# Altium integrated library Analog Devices Data Converters Analog-to-Digital Converters.IntLib: 2400 symbols (part 23 of 338)
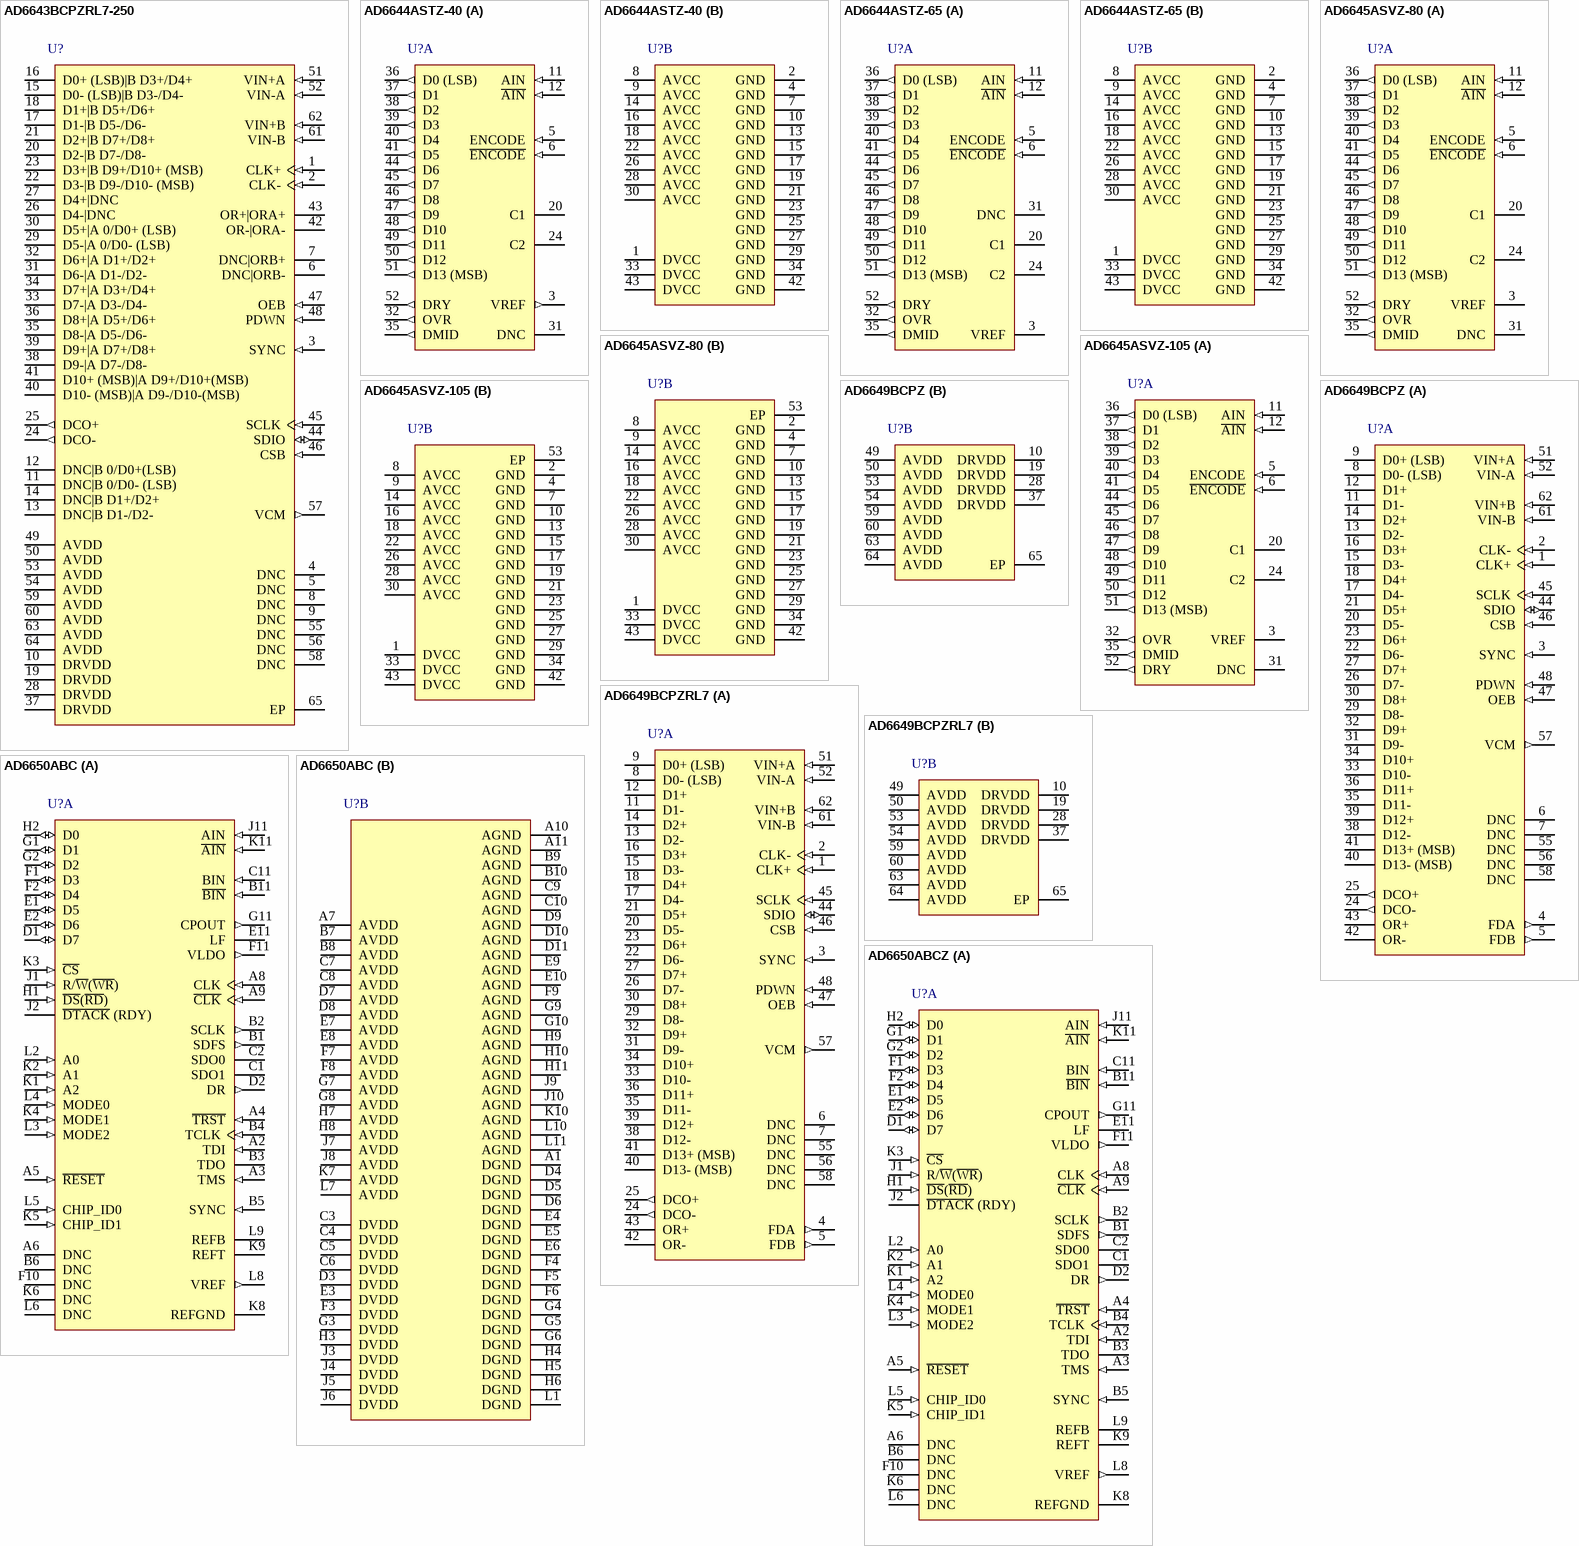
[diagram p167: symbols AD6643BCPZRL7-250 to AD6650ABCZ]

## AD6649BCPZRL7
designator U?
Dual IF Diversity Receiver, -40 to +85 degC, CP-64-4, Pb-Free, Reel; Part Number: AD6649; Manufacturer: Analog Devices; Channels: 2; DatasheetVersion: Rev.A; PackageVersion: 051007-C; PackageReference: CP-64-4; PackageDescription: 64-Lead Lead Frame Chip Scale Package [LFCSP_VQ] 9 x 9 mm Body, Very Thin Quad; RoHS: Y; Packing: Reel; Mounting Technology: Surface Mount; Code_JEDEC: MO-220-VMMD-4; ComponentLink1Description: Manufacturer URL; ComponentLink1URL: http://www.analog.com/en/index.html; ComponentLink2Description: Datasheet; ComponentLink2URL: http://www.analog.com/static/imported-files/data_sheets/AD6649.pdf; ComponentLink3Description: Package Specification; ComponentLink3URL: http://www.analog.com/static/imported-files/packages/PKG_PDF/LFCSP(CP)/CP_64_4.pdf; ComponentLink4Description: Product URL; ComponentLink4URL: http://www.analog.com/en/analog-to-digital-converters/integrated-receivers/ad6649/products/product.html
footprint CP-64-4_N (QFN, 64-Leads, Body 9x9mm, Pitch 0.5mm, Thermal Pad 6.2x6.2mm, IPC Medium Density)
footprint CP-64-4_L (QFN, 64-Leads, Body 9x9mm, Pitch 0.5mm, Thermal Pad 6.2x6.2mm, IPC High Density)
footprint CP-64-4_M (QFN, 64-Leads, Body 9x9mm, Pitch 0.5mm, Thermal Pad 6.2x6.2mm, IPC Low Density)
part A pins: 1 CLK+ (in) "ADC Clock Input--True.", 2 CLK- (in) "ADC Clock Input--Complement.", 3 SYNC (in) "Digital Synchronization Pin. Slave mode only.", 4 FDA (out) "Channel A Fast Detect Indicator (CMOS Levels).", 5 FDB (out) "Channel B Fast Detect Indicator (CMOS Levels).", 6 DNC "Do Not Connect. Do not connect to this pin.", 7 DNC "Do Not Connect. Do not connect to this pin.", 8 D0- (LSB) (hiz) "Channel A/Channel B LVDS Output Data 0--Complement", 9 D0+ (LSB) (hiz) "Channel A/Channel B LVDS Output Data 0--True.", 11 D1- (hiz) "Channel A/Channel B LVDS Output Data 1--Complement.", 12 D1+ (hiz) "Channel A/Channel B LVDS Output Data 1--True.", 13 D2- (hiz) "Channel A/Channel B LVDS Output Data 2--Complement.", 14 D2+ (hiz) "Channel A/Channel B LVDS Output Data 2--True.", 15 D3- (hiz) "Channel A/Channel B LVDS Output Data 3--Complement.", 16 D3+ (hiz) "Channel A/Channel B LVDS Output Data 3--True.", 17 D4- (hiz) "Channel A/Channel B LVDS Output Data 4--Complement.", 18 D4+ (hiz) "Channel A/Channel B LVDS Output Data 4--True.", 20 D5- (hiz) "Channel A/Channel B LVDS Output Data 5--Complement.", 21 D5+ (hiz) "Channel A/Channel B LVDS Output Data 5--True.", 22 D6- (hiz) "Channel A/Channel B LVDS Output Data 6--Complement.", 23 D6+ (hiz) "Channel A/Channel B LVDS Output Data 6--True.", 24 DCO- (out) "Channel A/Channel B LVDS Data Clock Output--Complement.", 25 DCO+ (out) "Channel A/Channel B LVDS Data Clock Output--True.", 26 D7- (hiz) "Channel A/Channel B LVDS Output Data 7--Complement.", 27 D7+ (hiz) "Channel A/Channel B LVDS Output Data 7--True.", 29 D8- (hiz) "Channel A/Channel B LVDS Output Data 8--Complement.", 30 D8+ (hiz) "Channel A/Channel B LVDS Output Data 8--True.", 31 D9- (hiz) "Channel A/Channel B LVDS Output Data 9--Complement.", 32 D9+ (hiz) "Channel A/Channel B LVDS Output Data 9--True.", 33 D10- (hiz) "Channel A/Channel B LVDS Output Data 10--Complement.", 34 D10+ (hiz) "Channel A/Channel B LVDS Output Data 10--True.", 35 D11- (hiz) "Channel A/Channel B LVDS Output Data 11--Complement.", 36 D11+ (hiz) "Channel A/Channel B LVDS Output Data 11--True.", 38 D12- (hiz) "Channel A/Channel B LVDS Output Data 12--Complement.", 39 D12+ (hiz) "Channel A/Channel B LVDS Output Data 12--True.", 40 D13- (MSB) (hiz) "Channel A/Channel B LVDS Output Data 13--Complement.", 41 D13+ (MSB) (hiz) "Channel A/Channel B LVDS Output Data 13--True.", 42 OR- (hiz) "Channel A/Channel B LVDS Overrange--Complement.", 43 OR+ (hiz) "Channel A/Channel B LVDS Overrange--True.", 44 SDIO (io) "SPI Serial Data Input/Output.", 45 SCLK (in) "SPI Serial Clock.", 46 CSB (in) "SPI Chip Select (Active Low).", 47 OEB (in) "Output Enable Bar Input (Active Low).", 48 PDWN (in) "Power-Down Input (Active High). The operation of this pin depends on the SPI mode and can be configured as power-down or standby (see Table 14).", 51 VIN+A (in) "Differential Analog Input Pin (+) for Channel A.", 52 VIN-A (in) "Differential Analog Input Pin (-) for Channel A.", 55 DNC "Do Not Connect. Do not connect to this pin.", 56 DNC "Do Not Connect. Do not connect to this pin.", 57 VCM (out) "Common-Mode Level Bias Output for Analog Inputs. This pin should be decoupled to ground using a 0.1 uF capacitor.", 58 DNC "Do Not Connect. Do not connect to this pin.", 61 VIN-B (in) "Differential Analog Input Pin (-) for Channel B.", 62 VIN+B (in) "Differential Analog Input Pin (+) for Channel B."
part B pins: 10 DRVDD (power) "Digital Output Driver Supply (1.8 V Nominal).", 19 DRVDD (power) "Digital Output Driver Supply (1.8 V Nominal).", 28 DRVDD (power) "Digital Output Driver Supply (1.8 V Nominal).", 37 DRVDD (power) "Digital Output Driver Supply (1.8 V Nominal).", 49 AVDD (power) "Analog Power Supply (1.8 V Nominal).", 50 AVDD (power) "Analog Power Supply (1.8 V Nominal).", 53 AVDD (power) "Analog Power Supply (1.8 V Nominal).", 54 AVDD (power) "Analog Power Supply (1.8 V Nominal).", 59 AVDD (power) "Analog Power Supply (1.8 V Nominal).", 60 AVDD (power) "Analog Power Supply (1.8 V Nominal).", 63 AVDD (power) "Analog Power Supply (1.8 V Nominal).", 64 AVDD (power) "Analog Power Supply (1.8 V Nominal).", 65 EP (power) "Analog Ground. The exposed thermal paddle on the bottom of the package provides the analog ground for the part. This exposed paddle must be connected to ground for proper operation."

## AD6650ABC
designator U?
Dual 16-Bit IF-to-Baseband GSM / EDGE Narrow-Band Receiver with Serial Interface, 1MSPS, -25 to +85 degC, BC-121-1, Tray; Part Number: AD6650; Manufacturer: Analog Devices; Resolution (Bits): 24; Channels: 2; Throughput Rate (SPS): 1M; Interface: Ser; DatasheetVersion: Rev.A; PackageVersion: 082406-A; PackageReference: BC-121-1; PackageDescription: 121-Ball Chip Scale Package Ball Grid Array [CSP_BGA]; RoHS: N; Packing: Tray; Mounting Technology: Surface Mount; Code_JEDEC: MO-192-ABD-1*; ComponentLink1Description: Manufacturer URL; ComponentLink1URL: http://www.analog.com/en/index.html; ComponentLink2Description: Datasheet; ComponentLink2URL: http://www.analog.com/static/imported-files/data_sheets/AD6650.pdf; ComponentLink3Description: Package Specification; ComponentLink3URL: http://www.analog.com/static/imported-files/packages/3232325371445BC_121_1.pdf; ComponentLink4Description: Product URL; ComponentLink4URL: http://www.analog.com/en/analog-to-digital-converters/ad-converters/ad6650/products/product.html
footprint BC-121-1 (BGA, 121-Leads, Body 12x12mm, Pitch 1mm)
part A pins: A2 TDI (in) "Test Data input", A3 TMS (in) "Test Mode Select Input", A4 ~{TRST} (in) "Test Reset Pin.", A5 ~{RESET} (in) "Active Low Reset Pin.", A6 DNC "Do Not Connect.", A8 CLK (in) "Encode Input. Conversion initiated on rising edge.", A9 ~{CLK} (in) "Complement of Encode.", B1 SDFS (out) "Serial Data Frame Sync.", B2 SCLK (out) "Serial Clock.", B3 TDO (hiz) "Test Data Output. Three-stated when JTAG is in reset.", B4 TCLK (in) "Test Clock Input.", B5 SYNC (in) "Synchronizes Digital Filters.", B6 DNC "Do Not Connect.", B11 ~{BIN} (in) "Complement of BIN. Differential analog input.", C1 SDO1 (hiz) "Serial Data Outputs. Three-stated when inactive.", C2 SDO0 (hiz) "Serial Data Outputs. Three-stated when inactive.", C11 BIN (in) "Diversity Analog Input.", D1 D7 (io) "Microport Data.", D2 DR (out) "Output Data Ready Indicator.", E1 D5 (io) "Microport Data.", E2 D6 (io) "Microport Data.", E11 LF "Loop Filter.", F1 D3 (io) "Microport Data.", F2 D4 (io) "Microport Data.", F10 DNC "Do Not Connect.", F11 VLDO (out) "Compensation for Internal Low Dropout Regulator. Bypass to ground with a 220 nF chip capacitor", G1 D1 (io) "Microport Data.", G2 D2 (io) "Microport Data.", G11 CPOUT (out) "Charge-Pump Output.", H1 ~{DS}(~{RD}) (in) "Active Low Data Strobe (Active Low Read).", H2 D0 (io) "Microport Data.", J1 R/~{W}(~{WR}) (in) "Read Write (Active Low Write).", J2 ~{DTACK} (RDY) (oc) "Active Low Data Acknowledge (Microport Status Bit). Open-drain output, requires  external pull-up resistor of 1 kO.", J11 AIN (in) "Main Analog Input.", K1 A2 (in) "Microport Address Bits.", K2 A1 (in) "Microport Address Bits.", K3 ~{CS} (in) "Chip Select.", K4 MODE1 (in) "Selects Control Port Mode.", K5 CHIP_ID1 (in) "Chip ID.", K6 DNC "Do Not Connect.", K8 REFGND (power) "ADC Ground Reference. See Figure 39 for recommended connection", K9 REFT "Internal ADC Voltage Reference. Bypass to ground with capacitors. See Figure 39 for recommended connection.", K11 ~{AIN} (in) "Complement of AIN. Differential analog input.", L2 A0 (in) "Microport Address Bits", L3 MODE2 (in) "Selects Control Port Mode.", L4 MODE0 (in) "Selects Control Port Mode.", L5 CHIP_ID0 (in) "Chip ID.", L6 DNC "Do Not Connect.", L8 VREF (out) "Internal ADC Voltage Reference. Bypass to ground with capacitors. See Figure 39 for recommended connection.", L9 REFB "Internal ADC Voltage Reference. Bypass to ground with capacitors. See Figure 39 for recommended connection."
part B pins: A1 DGND (power) "Digital Ground.", A7 AVDD (power) "3.3 V Analog Supply", A10 AGND (power) "Analog Ground.", A11 AGND (power) "Analog Ground.", B7 AVDD (power) "3.3 V Analog Supply", B8 AVDD (power) "3.3 V Analog Supply", B9 AGND (power) "Analog Ground.", B10 AGND (power) "Analog Ground.", C3 DVDD (power) "3.3 V Digital Supply.", C4 DVDD (power) "3.3 V Digital Supply.", C5 DVDD (power) "3.3 V Digital Supply.", C6 DVDD (power) "3.3 V Digital Supply.", C7 AVDD (power) "3.3 V Analog Supply", C8 AVDD (power) "3.3 V Analog Supply", C9 AGND (power) "Analog Ground.", C10 AGND (power) "Analog Ground.", D3 DVDD (power) "3.3 V Digital Supply.", D4 DGND (power) "Digital Ground.", D5 DGND (power) "Digital Ground.", D6 DGND (power) "Digital Ground.", D7 AVDD (power) "3.3 V Analog Supply", D8 AVDD (power) "3.3 V Analog Supply", D9 AGND (power) "Analog Ground.", D10 AGND (power) "Analog Ground.", D11 AGND (power) "Analog Ground.", E3 DVDD (power) "3.3 V Digital Supply.", E4 DGND (power) "Digital Ground.", E5 DGND (power) "Digital Ground.", E6 DGND (power) "Digital Ground.", E7 AVDD (power) "3.3 V Analog Supply", E8 AVDD (power) "3.3 V Analog Supply", E9 AGND (power) "Analog Ground.", E10 AGND (power) "Analog Ground.", F3 DVDD (power) "3.3 V Digital Supply.", F4 DGND (power) "Digital Ground.", F5 DGND (power) "Digital Ground.", F6 DGND (power) "Digital Ground.", F7 AVDD (power) "3.3 V Analog Supply", F8 AVDD (power) "3.3 V Analog Supply", F9 AGND (power) "Analog Ground.", G3 DVDD (power) "3.3 V Digital Supply.", G4 DGND (power) "Digital Ground.", G5 DGND (power) "Digital Ground.", G6 DGND (power) "Digital Ground.", G7 AVDD (power) "3.3 V Analog Supply", G8 AVDD (power) "3.3 V Analog Supply", G9 AGND (power) "Analog Ground.", G10 AGND (power) "Analog Ground.", H3 DVDD (power) "3.3 V Digital Supply.", H4 DGND (power) "Digital Ground.", H5 DGND (power) "Digital Ground.", H6 DGND (power) "Digital Ground.", H7 AVDD (power) "3.3 V Analog Supply", H8 AVDD (power) "3.3 V Analog Supply", H9 AGND (power) "Analog Ground.", H10 AGND (power) "Analog Ground.", H11 AGND (power) "Analog Ground.", J3 DVDD (power) "3.3 V Digital Supply.", J4 DVDD (power) "3.3 V Digital Supply.", J5 DVDD (power) "3.3 V Digital Supply.", J6 DVDD (power) "3.3 V Digital Supply.", J7 AVDD (power) "3.3 V Analog Supply", J8 AVDD (power) "3.3 V Analog Supply", J9 AGND (power) "Analog Ground.", J10 AGND (power) "Analog Ground.", K7 AVDD (power) "3.3 V Analog Supply.", K10 AGND (power) "Analog Ground.", L1 DGND (power) "Digital Ground.", L7 AVDD (power) "3.3 V Analog Supply", L10 AGND (power) "Analog Ground.", L11 AGND (power) "Analog Ground."

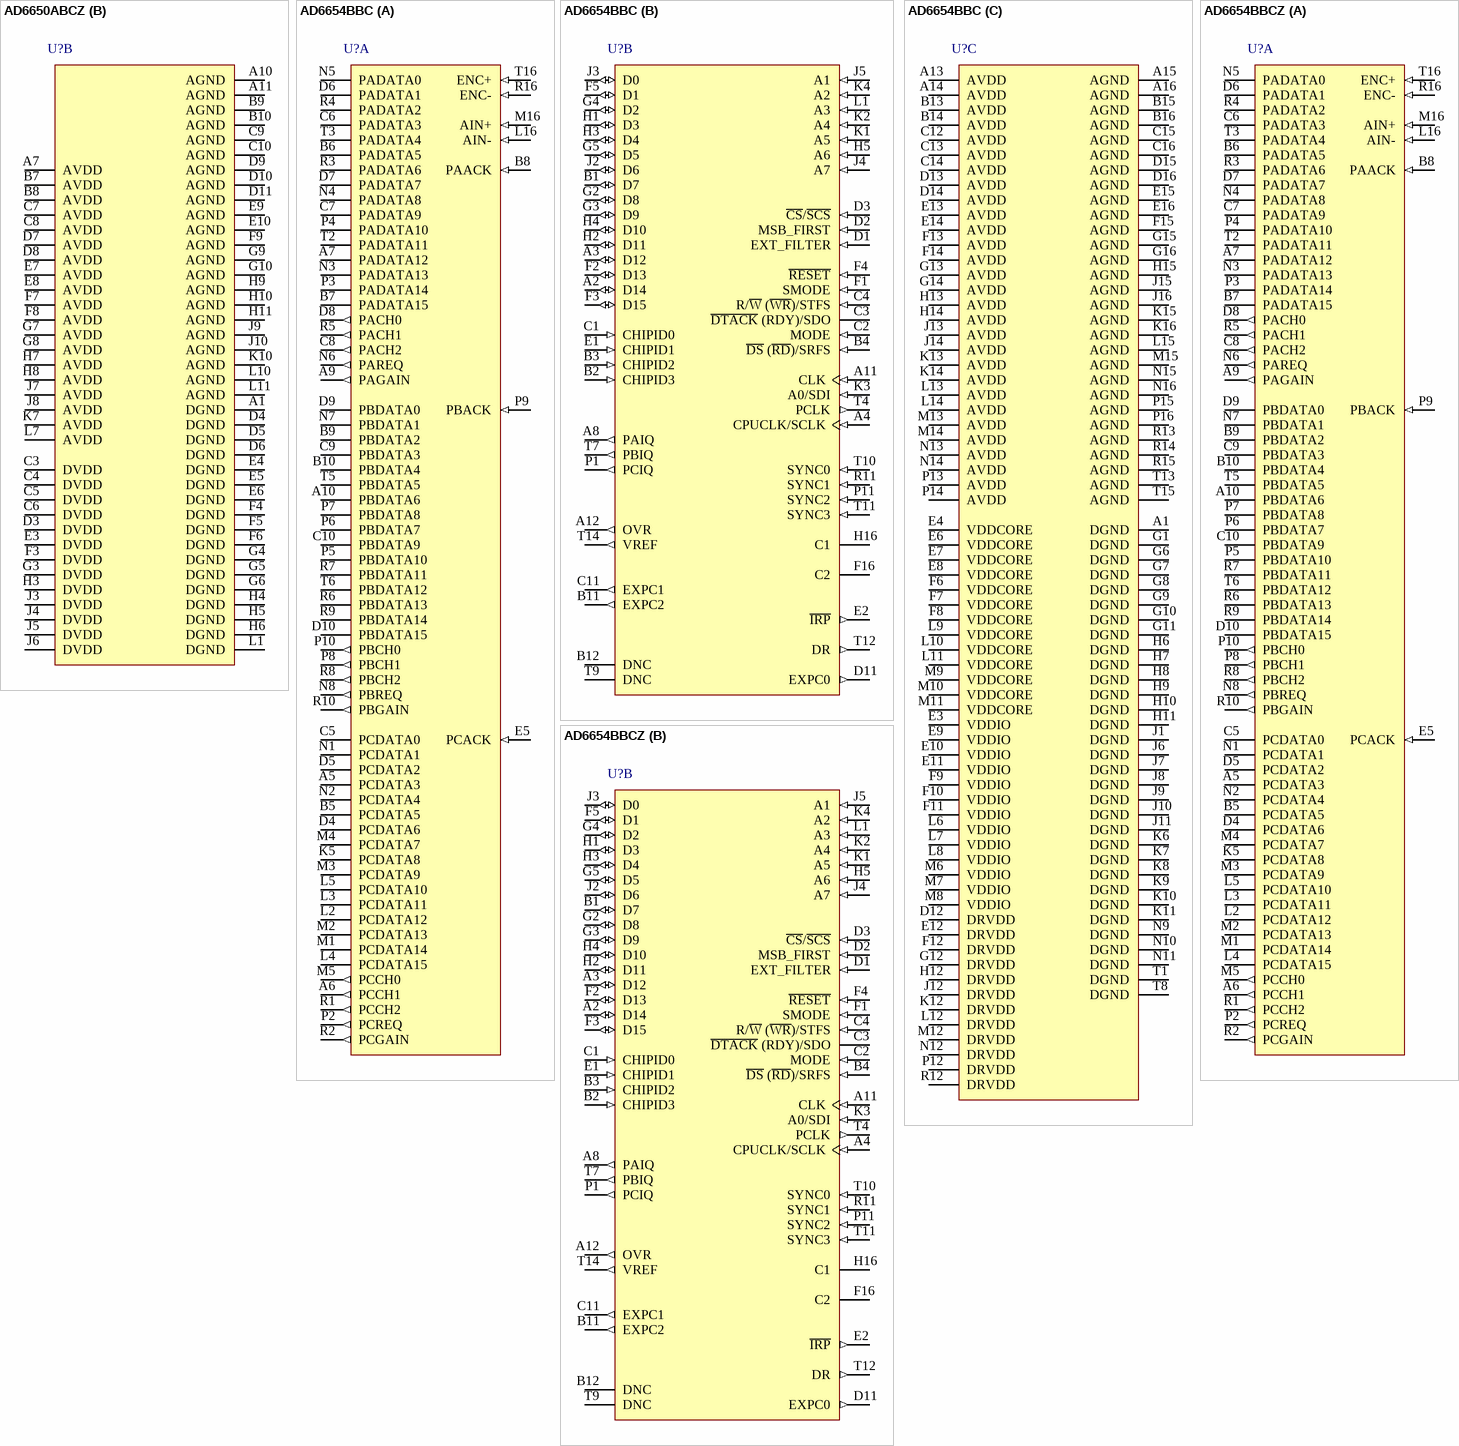
[diagram p9: symbols AD6650ABCZ to AD6654BBCZ]

## AD6650ABCZ
designator U?
Dual 16-Bit IF-to-Baseband GSM / EDGE Narrow-Band Receiver with Serial Interface, 1MSPS, -25 to +85 degC, BC-121-1, Pb-Free, Tray; Part Number: AD6650; Manufacturer: Analog Devices; Resolution (Bits): 24; Channels: 2; Throughput Rate (SPS): 1M; Interface: Ser; DatasheetVersion: Rev.A; PackageVersion: 082406-A; PackageReference: BC-121-1; PackageDescription: 121-Ball Chip Scale Package Ball Grid Array [CSP_BGA]; RoHS: Y; Packing: Tray; Mounting Technology: Surface Mount; Code_JEDEC: MO-192-ABD-1*; ComponentLink1Description: Manufacturer URL; ComponentLink1URL: http://www.analog.com/en/index.html; ComponentLink2Description: Datasheet; ComponentLink2URL: http://www.analog.com/static/imported-files/data_sheets/AD6650.pdf; ComponentLink3Description: Package Specification; ComponentLink3URL: http://www.analog.com/static/imported-files/packages/3232325371445BC_121_1.pdf; ComponentLink4Description: Product URL; ComponentLink4URL: http://www.analog.com/en/analog-to-digital-converters/ad-converters/ad6650/products/product.html
footprint BC-121-1 (BGA, 121-Leads, Body 12x12mm, Pitch 1mm)
part A pins: A2 TDI (in) "Test Data input", A3 TMS (in) "Test Mode Select Input", A4 ~{TRST} (in) "Test Reset Pin.", A5 ~{RESET} (in) "Active Low Reset Pin.", A6 DNC "Do Not Connect.", A8 CLK (in) "Encode Input. Conversion initiated on rising edge.", A9 ~{CLK} (in) "Complement of Encode.", B1 SDFS (out) "Serial Data Frame Sync.", B2 SCLK (out) "Serial Clock.", B3 TDO (hiz) "Test Data Output. Three-stated when JTAG is in reset.", B4 TCLK (in) "Test Clock Input.", B5 SYNC (in) "Synchronizes Digital Filters.", B6 DNC "Do Not Connect.", B11 ~{BIN} (in) "Complement of BIN. Differential analog input.", C1 SDO1 (hiz) "Serial Data Outputs. Three-stated when inactive.", C2 SDO0 (hiz) "Serial Data Outputs. Three-stated when inactive.", C11 BIN (in) "Diversity Analog Input.", D1 D7 (io) "Microport Data.", D2 DR (out) "Output Data Ready Indicator.", E1 D5 (io) "Microport Data.", E2 D6 (io) "Microport Data.", E11 LF "Loop Filter.", F1 D3 (io) "Microport Data.", F2 D4 (io) "Microport Data.", F10 DNC "Do Not Connect.", F11 VLDO (out) "Compensation for Internal Low Dropout Regulator. Bypass to ground with a 220 nF chip capacitor", G1 D1 (io) "Microport Data.", G2 D2 (io) "Microport Data.", G11 CPOUT (out) "Charge-Pump Output.", H1 ~{DS}(~{RD}) (in) "Active Low Data Strobe (Active Low Read).", H2 D0 (io) "Microport Data.", J1 R/~{W}(~{WR}) (in) "Read Write (Active Low Write).", J2 ~{DTACK} (RDY) (oc) "Active Low Data Acknowledge (Microport Status Bit). Open-drain output, requires  external pull-up resistor of 1 kO.", J11 AIN (in) "Main Analog Input.", K1 A2 (in) "Microport Address Bits.", K2 A1 (in) "Microport Address Bits.", K3 ~{CS} (in) "Chip Select.", K4 MODE1 (in) "Selects Control Port Mode.", K5 CHIP_ID1 (in) "Chip ID.", K6 DNC "Do Not Connect.", K8 REFGND (power) "ADC Ground Reference. See Figure 39 for recommended connection", K9 REFT "Internal ADC Voltage Reference. Bypass to ground with capacitors. See Figure 39 for recommended connection.", K11 ~{AIN} (in) "Complement of AIN. Differential analog input.", L2 A0 (in) "Microport Address Bits", L3 MODE2 (in) "Selects Control Port Mode.", L4 MODE0 (in) "Selects Control Port Mode.", L5 CHIP_ID0 (in) "Chip ID.", L6 DNC "Do Not Connect.", L8 VREF (out) "Internal ADC Voltage Reference. Bypass to ground with capacitors. See Figure 39 for recommended connection.", L9 REFB "Internal ADC Voltage Reference. Bypass to ground with capacitors. See Figure 39 for recommended connection."
part B pins: A1 DGND (power) "Digital Ground.", A7 AVDD (power) "3.3 V Analog Supply", A10 AGND (power) "Analog Ground.", A11 AGND (power) "Analog Ground.", B7 AVDD (power) "3.3 V Analog Supply", B8 AVDD (power) "3.3 V Analog Supply", B9 AGND (power) "Analog Ground.", B10 AGND (power) "Analog Ground.", C3 DVDD (power) "3.3 V Digital Supply.", C4 DVDD (power) "3.3 V Digital Supply.", C5 DVDD (power) "3.3 V Digital Supply.", C6 DVDD (power) "3.3 V Digital Supply.", C7 AVDD (power) "3.3 V Analog Supply", C8 AVDD (power) "3.3 V Analog Supply", C9 AGND (power) "Analog Ground.", C10 AGND (power) "Analog Ground.", D3 DVDD (power) "3.3 V Digital Supply.", D4 DGND (power) "Digital Ground.", D5 DGND (power) "Digital Ground.", D6 DGND (power) "Digital Ground.", D7 AVDD (power) "3.3 V Analog Supply", D8 AVDD (power) "3.3 V Analog Supply", D9 AGND (power) "Analog Ground.", D10 AGND (power) "Analog Ground.", D11 AGND (power) "Analog Ground.", E3 DVDD (power) "3.3 V Digital Supply.", E4 DGND (power) "Digital Ground.", E5 DGND (power) "Digital Ground.", E6 DGND (power) "Digital Ground.", E7 AVDD (power) "3.3 V Analog Supply", E8 AVDD (power) "3.3 V Analog Supply", E9 AGND (power) "Analog Ground.", E10 AGND (power) "Analog Ground.", F3 DVDD (power) "3.3 V Digital Supply.", F4 DGND (power) "Digital Ground.", F5 DGND (power) "Digital Ground.", F6 DGND (power) "Digital Ground.", F7 AVDD (power) "3.3 V Analog Supply", F8 AVDD (power) "3.3 V Analog Supply", F9 AGND (power) "Analog Ground.", G3 DVDD (power) "3.3 V Digital Supply.", G4 DGND (power) "Digital Ground.", G5 DGND (power) "Digital Ground.", G6 DGND (power) "Digital Ground.", G7 AVDD (power) "3.3 V Analog Supply", G8 AVDD (power) "3.3 V Analog Supply", G9 AGND (power) "Analog Ground.", G10 AGND (power) "Analog Ground.", H3 DVDD (power) "3.3 V Digital Supply.", H4 DGND (power) "Digital Ground.", H5 DGND (power) "Digital Ground.", H6 DGND (power) "Digital Ground.", H7 AVDD (power) "3.3 V Analog Supply", H8 AVDD (power) "3.3 V Analog Supply", H9 AGND (power) "Analog Ground.", H10 AGND (power) "Analog Ground.", H11 AGND (power) "Analog Ground.", J3 DVDD (power) "3.3 V Digital Supply.", J4 DVDD (power) "3.3 V Digital Supply.", J5 DVDD (power) "3.3 V Digital Supply.", J6 DVDD (power) "3.3 V Digital Supply.", J7 AVDD (power) "3.3 V Analog Supply", J8 AVDD (power) "3.3 V Analog Supply", J9 AGND (power) "Analog Ground.", J10 AGND (power) "Analog Ground.", K7 AVDD (power) "3.3 V Analog Supply.", K10 AGND (power) "Analog Ground.", L1 DGND (power) "Digital Ground.", L7 AVDD (power) "3.3 V Analog Supply", L10 AGND (power) "Analog Ground.", L11 AGND (power) "Analog Ground."

## AD6654BBC
designator U?
Single 14-Bit Wideband IF to Baseband Receiver with Parallel Interface, 92.16MSPS, 0 to +70 degC, BC-256-2, Tray; Part Number: AD6654; Manufacturer: Analog Devices; Resolution (Bits): 14; Channels: 1; Interface: Par; DatasheetVersion: Rev.0; PackageVersion: 022007-B; PackageReference: BC-256-2; PackageDescription: 256-Ball Chip Scale Package Ball Grid Array [CSP_BGA]; RoHS: N; Packing: Tray; Mounting Technology: Surface Mount; Code_JEDEC: MO-192-AAF-1*; ComponentLink1Description: Manufacturer URL; ComponentLink1URL: http://www.analog.com/en/index.html; ComponentLink2Description: Datasheet; ComponentLink2URL: http://www.analog.com/static/imported-files/data_sheets/AD6654.pdf; ComponentLink3Description: Package Specification; ComponentLink3URL: http://www.analog.com/static/imported-files/packages/5685336469362195555BC_256_2.pdf; ComponentLink4Description: Product URL; ComponentLink4URL: http://www.analog.com/en/analog-to-digital-converters/ad-converters/ad6654/products/product.html
footprint BC-256-2 (BGA, 256-Leads, Body 17x17mm, Pitch 1mm)
part A pins: A5 PCDATA3 (hiz) "Parallel Output Port C Data Bus.", A6 PCCH1 (out) "Channel Indicator Output Port C.", A7 PADATA12 (hiz) "Parallel Output Port A Data Bus.", A9 PAGAIN (out) "Parallel Port A Gain Word Output Indicator. Logic 1 indicates gain word on data bus.", A10 PBDATA6 (hiz) "Parallel Output Port B Data Bus.", B5 PCDATA5 (hiz) "Parallel Output Port C Data Bus.", B6 PADATA5 (hiz) "Parallel Output Port A Data Bus.", B7 PADATA15 (hiz) "Parallel Output Port A Data Bus.", B8 PAACK (in) "Parallel Port A Acknowledge (Active High).", B9 PBDATA2 (hiz) "Parallel Output Port B Data Bus.", B10 PBDATA4 (hiz) "Parallel Output Port B Data Bus.", C5 PCDATA0 (hiz) "Parallel Output Port C Data Bus.", C6 PADATA3 (hiz) "Parallel Output Port A Data Bus.", C7 PADATA9 (hiz) "Parallel Output Port A Data Bus.", C8 PACH2 (out) "Channel Indicator Output Port A", C9 PBDATA3 (hiz) "Parallel Output Port B Data Bus.", C10 PBDATA9 (hiz) "Parallel Output Port B Data Bus.", D4 PCDATA6 (hiz) "Parallel Output Port C Data Bus.", D5 PCDATA2 (hiz) "Parallel Output Port C Data Bus.", D6 PADATA1 (hiz) "Parallel Output Port A Data Bus.", D7 PADATA7 (hiz) "Parallel Output Port A Data Bus.", D8 PACH0 (out) "Channel Indicator Output Port A.", D9 PBDATA0 (hiz) "Parallel Output Port B Data Bus.", D10 PBDATA15 (hiz) "Parallel Output Port B Data Bus.", E5 PCACK (in) "Parallel Port C Acknowledge (Active High).", K5 PCDATA8 (hiz) "Parallel Output Port C Data Bus.", L2 PCDATA12 (hiz) "Parallel Output Port C Data Bus.", L3 PCDATA11 (hiz) "Parallel Output Port C Data Bus.", L4 PCDATA15 (hiz) "Parallel Output Port C Data Bus.", L5 PCDATA10 (hiz) "Parallel Output Port C Data Bus.", L16 AIN- (in) "Differential Analog Input", M1 PCDATA14 (hiz) "Parallel Output Port C Data Bus.", M2 PCDATA13 (hiz) "Parallel Output Port C Data Bus.", M3 PCDATA9 (hiz) "Parallel Output Port C Data Bus.", M4 PCDATA7 (hiz) "Parallel Output Port C Data Bus.", M5 PCCH0 (out) "Channel Indicator Output Port C.", M16 AIN+ (in) "Differential Analog Input.", N1 PCDATA1 (hiz) "Parallel Output Port C Data Bus.", N2 PCDATA4 (hiz) "Parallel Output Port C Data Bus.", N3 PADATA13 (hiz) "Parallel Output Port A Data Bus.", N4 PADATA8 (hiz) "Parallel Output Port A Data Bus.", N5 PADATA0 (hiz) "Parallel Output Port A Data Bus.", N6 PAREQ (out) "Parallel Port A Request (Active High).", N7 PBDATA1 (hiz) "Parallel Output Port B Data Bus.", N8 PBREQ (out) "Parallel Port B Request (Active High)", P2 PCREQ (out) "Parallel Port C Request (Active High).", P3 PADATA14 (hiz) "Parallel Output Port A Data Bus.", P4 PADATA10 (hiz) "Parallel Output Port A Data Bus.", P5 PBDATA10 (hiz) "Parallel Output Port B Data Bus.", P6 PBDATA7 (hiz) "Parallel Output Port B Data Bus.", P7 PBDATA8 (hiz) "Parallel Output Port B Data Bus.", P8 PBCH1 (out) "Channel Indicator Output Port B", P9 PBACK (in) "Parallel Port B Acknowledge (Active High).", P10 PBCH0 (out) "Channel Indicator Output Port B", R1 PCCH2 (out) "Channel Indicator Output Port C.", R2 PCGAIN (out) "Parallel Port C Gain word Output Indicator. Logic 1 indicates gain word on data bus.", R3 PADATA6 (hiz) "Parallel Output Port A Data Bus.", R4 PADATA2 (hiz) "Parallel Output Port A Data Bus.", R5 PACH1 (out) "Channel Indicator Output Port A.", R6 PBDATA13 (hiz) "Parallel Output Port B Data Bus.", R7 PBDATA11 (hiz) "Parallel Output Port B Data Bus.", R8 PBCH2 (out) "Channel Indicator Output Port B", R9 PBDATA14 (hiz) "Parallel Output Port B Data Bus.", R10 PBGAIN (out) "Parallel Port B Gain Word Output Indicator. Logic 1 indicates gain word on data bus.", R16 ENC- (in) "Differential Encode Input.", T2 PADATA11 (hiz) "Parallel Output Port A Data Bus.", T3 PADATA4 (hiz) "Parallel Output Port A Data Bus.", T5 PBDATA5 (hiz) "Parallel Output Port B Data Bus.", T6 PBDATA12 (hiz) "Parallel Output Port B Data Bus.", T16 ENC+ (in) "Differential Encode Input. Conversion initiated on rising edge."
part B pins: A2 D14 (io) "Bidirectional Microport Data. This bus is three-stated when C\S\ is high.", A3 D12 (io) "Bidirectional Microport Data. This bus is three-stated when C\S\ is high.", A4 CPUCLK/SCLK (in) "Microport CLK Input. (Input only.)/Serial Clock. Should have a rise/fall time of 3ns max.", A8 PAIQ (out) "Parallel Port A I/Q Data Indicator. Logic 1 indicates I data on data bus.", A11 CLK (in) "DDC Clock Input.", A12 OVR (out) "Overange Bit. A logic high indicates analog input exceeds +/-FS.", B1 D7 (io) "Bidirectional Microport Data. This bus is three-stated when C\S\ is high.", B2 CHIPID3 (in) "Chip ID Input Pins.", B3 CHIPID2 (in) "Chip ID Input Pins.", B4 ~{DS} (~{RD})/SRFS (in) "Active Low Data Strobe, MODE = 1. Active low read strobe when MODE = 0./Serial Receive Frame Sync.", B11 EXPC2 (out) "External VGA Gain Control Bits. GND all pins if not used.", B12 DNC "Do Not Connect.", C1 CHIPID0 (in) "Chip ID Input Pins.", C2 MODE (in) "Mode Select. Logic 0 = Intel?mode, Logic 1 = Motorola mode.", C3 ~{DTACK} (RDY)/SDO (hiz) "Active Low Data Acknowledge, MODE = 1. Microport status pin when MODE = 0. Terminate to VDDIO through external 1 k ohm pull-up resistor./ Serial Port Data Output. Terminate to VDDIO through external 1 kO pull-up resistor.", C4 R/~{W} (~{WR})/STFS (in) "Read/Write Strobe, MODE = 1. Active low write strobe when MODE = 0./ Serial Transmit Frame Sync.", C11 EXPC1 (out) "External VGA Gain Control Bits. GND all pins if not used.", D1 EXT_FILTER (in) "PLL Loop Filter (Analog Pin). Connect to VDDCORE through series 250 ohm and 0.01 µF capacitor.", D2 MSB_FIRST (in) "Most Significant Bit_First. Selects MSB_FIRST into SDI pin, and MSB_FIRST out of SDO pin. Logic 1 = MSB_FIRST; Logic 0 = LSB_FIRST", D3 ~{CS}/~{SCS} (in) "Active Low Chip Select. Logic 1 three-states the microport data bus./ Serial Chip Select.", D11 EXPC0 (out) "External VGA Gain Control Bits. GND all pins if not used.", E1 CHIPID1 (in) "Chip ID Input Pins.", E2 ~{IRP} (out) "Interrupt Pin (Active Low). Terminate to VDDIO through external 1 k ohm pull-up resistor.", F1 SMODE (in) "Serial Mode Select.", F2 D13 (io) "Bidirectional Microport Data. This bus is three-stated when C\S\ is high.", F3 D15 (io) "Bidirectional Microport Data. This bus is three-stated when C\S\ is high.", F4 ~{RESET} (in) "Master Reset, Active Low.", F5 D1 (io) "Bidirectional Microport Data. This bus is three-stated when C\S\ is high.", F16 C2 "Compensation Pin for ADC Voltage Reference. Bypass to AGND with 0.1 µF chip capacitor.", G2 D8 (io) "Bidirectional Microport Data. This bus is three-stated when C\S\ is high.", G3 D9 (io) "Bidirectional Microport Data. This bus is three-stated when C\S\ is high.", G4 D2 (io) "Bidirectional Microport Data. This bus is three-stated when C\S\ is high.", G5 D5 (io) "Bidirectional Microport Data. This bus is three-stated when C\S\ is high.", H1 D3 (io) "Bidirectional Microport Data. This bus is three-stated when C\S\ is high.", H2 D11 (io) "Bidirectional Microport Data. This bus is three-stated when C\S\ is high.", H3 D4 (io) "Bidirectional Microport Data. This bus is three-stated when C\S\ is high.", H4 D10 (io) "Bidirectional Microport Data. This bus is three-stated when C\S\ is high.", H5 A6 (in) "Microport Address Bus.", H16 C1 "Compensation Pin for ADC Voltage Reference. Bypass to AGND with 0.1 µF chip capacitor.", J2 D6 (io) "Bidirectional Microport Data. This bus is three-stated when C\S\ is high.", J3 D0 (io) "Bidirectional Microport Data. This bus is three-stated when C\S\ is high.", J4 A7 (in) "Microport Address Bus.", J5 A1 (in) "Microport Address Bus.", K1 A5 (in) "Microport Address Bus.", K2 A4 (in) "Microport Address Bus.", K3 A0/SDI (in) "Serial Port Data Input.", K4 A2 (in) "Microport Address Bus.", L1 A3 (in) "Microport Address Bus.", P1 PCIQ (out) "Parallel Port C I/Q Data Indicator. Logic 1 indicates I data on data bus.", P11 SYNC2 (in) "Synchronization Input 2.", R11 SYNC1 (in) "Synchronization Input 1.", T4 PCLK (out) "Parallel Output Port Clock. PCLK is bi-directional: master mode = output, slave mode = input.", T7 PBIQ (out) "Parallel Port B I/Q Data Indicator. Logic 1 indicates I data on data bus.", T9 DNC "Do Not Connect.", T10 SYNC0 (in) "Synchronization Input 0. SYNC pins are independent of channels.", T11 SYNC3 (in) "Synchronization Input 3.", T12 DR (out) "Data Ready. Inverted and delayed representation of ENC+ used for driving the DDC CLK input.", T14 VREF (out) "2.4 V Fixed Internal Voltage Reference. Bypass to AGND with 0.1 uF chip capacitor."
part C pins: A1 DGND (power) "Digital Core and I/O Ground.", A13 AVDD (power) "5 V Analog ADC Core Supply.", A14 AVDD (power) "5 V Analog ADC Core Supply.", A15 AGND (power) "Analog ADC Ground.", A16 AGND (power) "Analog ADC Ground.", B13 AVDD (power) "5 V Analog ADC Core Supply.", B14 AVDD (power) "5 V Analog ADC Core Supply.", B15 AGND (power) "Analog ADC Ground.", B16 AGND (power) "Analog ADC Ground.", C12 AVDD (power) "5 V Analog ADC Core Supply.", C13 AVDD (power) "5 V Analog ADC Core Supply.", C14 AVDD (power) "5 V Analog ADC Core Supply.", C15 AGND (power) "Analog ADC Ground.", C16 AGND (power) "Analog ADC Ground.", D12 DRVDD (power) "3.3 V ADC Output Driver Supply", D13 AVDD (power) "5 V Analog ADC Core Supply.", D14 AVDD (power) "5 V Analog ADC Core Supply.", D15 AGND (power) "Analog ADC Ground.", D16 AGND (power) "Analog ADC Ground.", E3 VDDIO (power) "3.3 V Digital DDC I/O Supply.", E4 VDDCORE (power) "1.8 V Digital DDC Core Supply", E6 VDDCORE (power) "1.8 V Digital DDC Core Supply", E7 VDDCORE (power) "1.8 V Digital DDC Core Supply", E8 VDDCORE (power) "1.8 V Digital DDC Core Supply", E9 VDDIO (power) "3.3 V Digital DDC I/O Supply.", E10 VDDIO (power) "3.3 V Digital DDC I/O Supply.", E11 VDDIO (power) "3.3 V Digital DDC I/O Supply.", E12 DRVDD (power) "3.3 V ADC Output Driver Supply", E13 AVDD (power) "5 V Analog ADC Core Supply.", E14 AVDD (power) "5 V Analog ADC Core Supply.", E15 AGND (power) "Analog ADC Ground.", E16 AGND (power) "Analog ADC Ground.", F6 VDDCORE (power) "1.8 V Digital DDC Core Supply", F7 VDDCORE (power) "1.8 V Digital DDC Core Supply", F8 VDDCORE (power) "1.8 V Digital DDC Core Supply", F9 VDDIO (power) "3.3 V Digital DDC I/O Supply.", F10 VDDIO (power) "3.3 V Digital DDC I/O Supply.", F11 VDDIO (power) "3.3 V Digital DDC I/O Supply.", F12 DRVDD (power) "3.3 V ADC Output Driver Supply", F13 AVDD (power) "5 V Analog ADC Core Supply.", F14 AVDD (power) "5 V Analog ADC Core Supply.", F15 AGND (power) "Analog ADC Ground.", G1 DGND (power) "Digital Core and I/O Ground.", G6 DGND (power) "Digital Core and I/O Ground.", G7 DGND (power) "Digital Core and I/O Ground.", G8 DGND (power) "Digital Core and I/O Ground.", G9 DGND (power) "Digital Core and I/O Ground.", G10 DGND (power) "Digital Core and I/O Ground.", G11 DGND (power) "Digital Core and I/O Ground.", G12 DRVDD (power) "3.3 V ADC Output Driver Supply", G13 AVDD (power) "5 V Analog ADC Core Supply.", G14 AVDD (power) "5 V Analog ADC Core Supply.", G15 AGND (power) "Analog ADC Ground.", G16 AGND (power) "Analog ADC Ground.", H6 DGND (power) "Digital Core and I/O Ground.", H7 DGND (power) "Digital Core and I/O Ground.", H8 DGND (power) "Digital Core and I/O Ground.", H9 DGND (power) "Digital Core and I/O Ground.", H10 DGND (power) "Digital Core and I/O Ground.", H11 DGND (power) "Digital Core and I/O Ground.", H12 DRVDD (power) "3.3 V ADC Output Driver Supply", H13 AVDD (power) "5 V Analog ADC Core Supply.", H14 AVDD (power) "5 V Analog ADC Core Supply.", H15 AGND (power) "Analog ADC Ground.", J1 DGND (power) "Digital Core and I/O Ground.", J6 DGND (power) "Digital Core and I/O Ground.", J7 DGND (power) "Digital Core and I/O Ground.", J8 DGND (power) "Digital Core and I/O Ground.", J9 DGND (power) "Digital Core and I/O Ground.", J10 DGND (power) "Digital Core and I/O Ground.", J11 DGND (power) "Digital Core and I/O Ground.", J12 DRVDD (power) "3.3 V ADC Output Driver Supply", J13 AVDD (power) "5 V Analog ADC Core Supply.", J14 AVDD (power) "5 V Analog ADC Core Supply.", J15 AGND (power) "Analog ADC Ground.", J16 AGND (power) "Analog ADC Ground.", K6 DGND (power) "Digital Core and I/O Ground.", K7 DGND (power) "Digital Core and I/O Ground.", K8 DGND (power) "Digital Core and I/O Ground.", K9 DGND (power) "Digital Core and I/O Ground.", K10 DGND (power) "Digital Core and I/O Ground.", K11 DGND (power) "Digital Core and I/O Ground.", K12 DRVDD (power) "3.3 V ADC Output Driver Supply", K13 AVDD (power) "5 V Analog ADC Core Supply.", K14 AVDD (power) "5 V Analog ADC Core Supply.", K15 AGND (power) "Analog ADC Ground.", K16 AGND (power) "Analog ADC Ground.", L6 VDDIO (power) "3.3 V Digital DDC I/O Supply.", L7 VDDIO (power) "3.3 V Digital DDC I/O Supply.", L8 VDDIO (power) "3.3 V Digital DDC I/O Supply.", L9 VDDCORE (power) "1.8 V Digital DDC Core Supply", L10 VDDCORE (power) "1.8 V Digital DDC Core Supply", L11 VDDCORE (power) "1.8 V Digital DDC Core Supply", L12 DRVDD (power) "3.3 V ADC Output Driver Supply", L13 AVDD (power) "5 V Analog ADC Core Supply.", L14 AVDD (power) "5 V Analog ADC Core Supply.", L15 AGND (power) "Analog ADC Ground.", M6 VDDIO (power) "3.3 V Digital DDC I/O Supply.", M7 VDDIO (power) "3.3 V Digital DDC I/O Supply.", M8 VDDIO (power) "3.3 V Digital DDC I/O Supply.", M9 VDDCORE (power) "1.8 V Digital DDC Core Supply", M10 VDDCORE (power) "1.8 V Digital DDC Core Supply", M11 VDDCORE (power) "1.8 V Digital DDC Core Supply", M12 DRVDD (power) "3.3 V ADC Output Driver Supply", M13 AVDD (power) "5 V Analog ADC Core Supply.", M14 AVDD (power) "5 V Analog ADC Core Supply.", M15 AGND (power) "Analog ADC Ground.", N9 DGND (power) "Digital Core and I/O Ground.", N10 DGND (power) "Digital Core and I/O Ground.", N11 DGND (power) "Digital Core and I/O Ground.", N12 DRVDD (power) "3.3 V ADC Output Driver Supply", N13 AVDD (power) "5 V Analog ADC Core Supply.", N14 AVDD (power) "5 V Analog ADC Core Supply.", N15 AGND (power) "Analog ADC Ground.", N16 AGND (power) "Analog ADC Ground.", P12 DRVDD (power) "3.3 V ADC Output Driver Supply", P13 AVDD (power) "5 V Analog ADC Core Supply.", P14 AVDD (power) "5 V Analog ADC Core Supply.", P15 AGND (power) "Analog ADC Ground.", P16 AGND (power) "Analog ADC Ground.", R12 DRVDD (power) "3.3 V ADC Output Driver Supply", R13 AGND (power) "Analog ADC Ground.", R14 AGND (power) "Analog ADC Ground.", R15 AGND (power) "Analog ADC Ground.", T1 DGND (power) "Digital Core and I/O Ground.", T8 DGND (power) "Digital Core and I/O Ground.", T13 AGND (power) "Analog ADC Ground.", T15 AGND (power) "Analog ADC Ground."

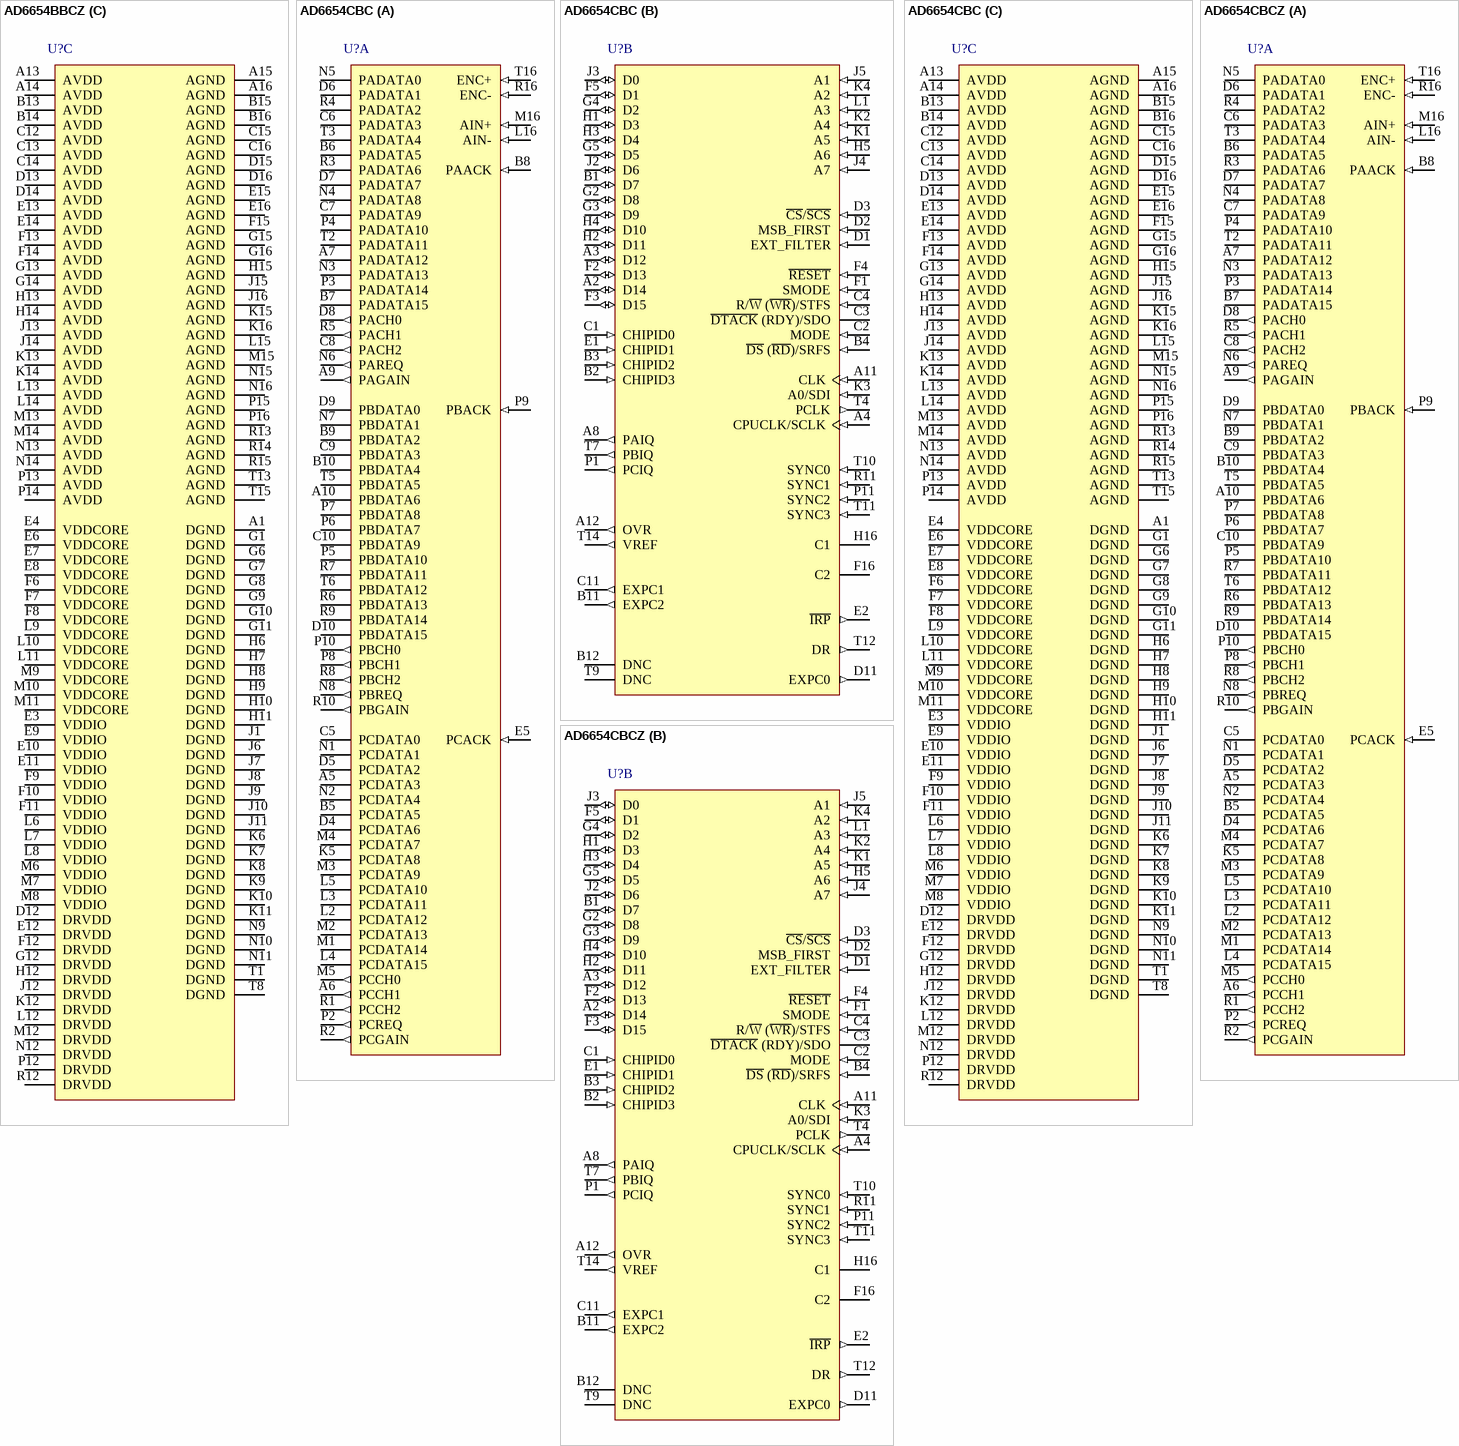
[diagram p10: symbols AD6654BBCZ to AD6654CBCZ]

## AD6654BBCZ
designator U?
Single 14-Bit Wideband IF to Baseband Receiver with Parallel Interface, 92.16MSPS, 0 to +70 degC, BC-256-2, Pb-Free, Tray; Part Number: AD6654; Manufacturer: Analog Devices; Resolution (Bits): 14; Channels: 1; Interface: Par; DatasheetVersion: Rev.0; PackageVersion: 022007-B; PackageReference: BC-256-2; PackageDescription: 256-Ball Chip Scale Package Ball Grid Array [CSP_BGA]; RoHS: Y; Packing: Tray; Mounting Technology: Surface Mount; Code_JEDEC: MO-192-AAF-1*; ComponentLink1Description: Manufacturer URL; ComponentLink1URL: http://www.analog.com/en/index.html; ComponentLink2Description: Datasheet; ComponentLink2URL: http://www.analog.com/static/imported-files/data_sheets/AD6654.pdf; ComponentLink3Description: Package Specification; ComponentLink3URL: http://www.analog.com/static/imported-files/packages/5685336469362195555BC_256_2.pdf; ComponentLink4Description: Product URL; ComponentLink4URL: http://www.analog.com/en/analog-to-digital-converters/ad-converters/ad6654/products/product.html
footprint BC-256-2 (BGA, 256-Leads, Body 17x17mm, Pitch 1mm)
part A pins: A5 PCDATA3 (hiz) "Parallel Output Port C Data Bus.", A6 PCCH1 (out) "Channel Indicator Output Port C.", A7 PADATA12 (hiz) "Parallel Output Port A Data Bus.", A9 PAGAIN (out) "Parallel Port A Gain Word Output Indicator. Logic 1 indicates gain word on data bus.", A10 PBDATA6 (hiz) "Parallel Output Port B Data Bus.", B5 PCDATA5 (hiz) "Parallel Output Port C Data Bus.", B6 PADATA5 (hiz) "Parallel Output Port A Data Bus.", B7 PADATA15 (hiz) "Parallel Output Port A Data Bus.", B8 PAACK (in) "Parallel Port A Acknowledge (Active High).", B9 PBDATA2 (hiz) "Parallel Output Port B Data Bus.", B10 PBDATA4 (hiz) "Parallel Output Port B Data Bus.", C5 PCDATA0 (hiz) "Parallel Output Port C Data Bus.", C6 PADATA3 (hiz) "Parallel Output Port A Data Bus.", C7 PADATA9 (hiz) "Parallel Output Port A Data Bus.", C8 PACH2 (out) "Channel Indicator Output Port A", C9 PBDATA3 (hiz) "Parallel Output Port B Data Bus.", C10 PBDATA9 (hiz) "Parallel Output Port B Data Bus.", D4 PCDATA6 (hiz) "Parallel Output Port C Data Bus.", D5 PCDATA2 (hiz) "Parallel Output Port C Data Bus.", D6 PADATA1 (hiz) "Parallel Output Port A Data Bus.", D7 PADATA7 (hiz) "Parallel Output Port A Data Bus.", D8 PACH0 (out) "Channel Indicator Output Port A.", D9 PBDATA0 (hiz) "Parallel Output Port B Data Bus.", D10 PBDATA15 (hiz) "Parallel Output Port B Data Bus.", E5 PCACK (in) "Parallel Port C Acknowledge (Active High).", K5 PCDATA8 (hiz) "Parallel Output Port C Data Bus.", L2 PCDATA12 (hiz) "Parallel Output Port C Data Bus.", L3 PCDATA11 (hiz) "Parallel Output Port C Data Bus.", L4 PCDATA15 (hiz) "Parallel Output Port C Data Bus.", L5 PCDATA10 (hiz) "Parallel Output Port C Data Bus.", L16 AIN- (in) "Differential Analog Input", M1 PCDATA14 (hiz) "Parallel Output Port C Data Bus.", M2 PCDATA13 (hiz) "Parallel Output Port C Data Bus.", M3 PCDATA9 (hiz) "Parallel Output Port C Data Bus.", M4 PCDATA7 (hiz) "Parallel Output Port C Data Bus.", M5 PCCH0 (out) "Channel Indicator Output Port C.", M16 AIN+ (in) "Differential Analog Input.", N1 PCDATA1 (hiz) "Parallel Output Port C Data Bus.", N2 PCDATA4 (hiz) "Parallel Output Port C Data Bus.", N3 PADATA13 (hiz) "Parallel Output Port A Data Bus.", N4 PADATA8 (hiz) "Parallel Output Port A Data Bus.", N5 PADATA0 (hiz) "Parallel Output Port A Data Bus.", N6 PAREQ (out) "Parallel Port A Request (Active High).", N7 PBDATA1 (hiz) "Parallel Output Port B Data Bus.", N8 PBREQ (out) "Parallel Port B Request (Active High)", P2 PCREQ (out) "Parallel Port C Request (Active High).", P3 PADATA14 (hiz) "Parallel Output Port A Data Bus.", P4 PADATA10 (hiz) "Parallel Output Port A Data Bus.", P5 PBDATA10 (hiz) "Parallel Output Port B Data Bus.", P6 PBDATA7 (hiz) "Parallel Output Port B Data Bus.", P7 PBDATA8 (hiz) "Parallel Output Port B Data Bus.", P8 PBCH1 (out) "Channel Indicator Output Port B", P9 PBACK (in) "Parallel Port B Acknowledge (Active High).", P10 PBCH0 (out) "Channel Indicator Output Port B", R1 PCCH2 (out) "Channel Indicator Output Port C.", R2 PCGAIN (out) "Parallel Port C Gain word Output Indicator. Logic 1 indicates gain word on data bus.", R3 PADATA6 (hiz) "Parallel Output Port A Data Bus.", R4 PADATA2 (hiz) "Parallel Output Port A Data Bus.", R5 PACH1 (out) "Channel Indicator Output Port A.", R6 PBDATA13 (hiz) "Parallel Output Port B Data Bus.", R7 PBDATA11 (hiz) "Parallel Output Port B Data Bus.", R8 PBCH2 (out) "Channel Indicator Output Port B", R9 PBDATA14 (hiz) "Parallel Output Port B Data Bus.", R10 PBGAIN (out) "Parallel Port B Gain Word Output Indicator. Logic 1 indicates gain word on data bus.", R16 ENC- (in) "Differential Encode Input.", T2 PADATA11 (hiz) "Parallel Output Port A Data Bus.", T3 PADATA4 (hiz) "Parallel Output Port A Data Bus.", T5 PBDATA5 (hiz) "Parallel Output Port B Data Bus.", T6 PBDATA12 (hiz) "Parallel Output Port B Data Bus.", T16 ENC+ (in) "Differential Encode Input. Conversion initiated on rising edge."
part B pins: A2 D14 (io) "Bidirectional Microport Data. This bus is three-stated when C\S\ is high.", A3 D12 (io) "Bidirectional Microport Data. This bus is three-stated when C\S\ is high.", A4 CPUCLK/SCLK (in) "Microport CLK Input. (Input only.)/Serial Clock. Should have a rise/fall time of 3ns max.", A8 PAIQ (out) "Parallel Port A I/Q Data Indicator. Logic 1 indicates I data on data bus.", A11 CLK (in) "DDC Clock Input.", A12 OVR (out) "Overange Bit. A logic high indicates analog input exceeds +/-FS.", B1 D7 (io) "Bidirectional Microport Data. This bus is three-stated when C\S\ is high.", B2 CHIPID3 (in) "Chip ID Input Pins.", B3 CHIPID2 (in) "Chip ID Input Pins.", B4 ~{DS} (~{RD})/SRFS (in) "Active Low Data Strobe, MODE = 1. Active low read strobe when MODE = 0./Serial Receive Frame Sync.", B11 EXPC2 (out) "External VGA Gain Control Bits. GND all pins if not used.", B12 DNC "Do Not Connect.", C1 CHIPID0 (in) "Chip ID Input Pins.", C2 MODE (in) "Mode Select. Logic 0 = Intel?mode, Logic 1 = Motorola mode.", C3 ~{DTACK} (RDY)/SDO (hiz) "Active Low Data Acknowledge, MODE = 1. Microport status pin when MODE = 0. Terminate to VDDIO through external 1 k ohm pull-up resistor./ Serial Port Data Output. Terminate to VDDIO through external 1 kO pull-up resistor.", C4 R/~{W} (~{WR})/STFS (in) "Read/Write Strobe, MODE = 1. Active low write strobe when MODE = 0./ Serial Transmit Frame Sync.", C11 EXPC1 (out) "External VGA Gain Control Bits. GND all pins if not used.", D1 EXT_FILTER (in) "PLL Loop Filter (Analog Pin). Connect to VDDCORE through series 250 ohm and 0.01 µF capacitor.", D2 MSB_FIRST (in) "Most Significant Bit_First. Selects MSB_FIRST into SDI pin, and MSB_FIRST out of SDO pin. Logic 1 = MSB_FIRST; Logic 0 = LSB_FIRST", D3 ~{CS}/~{SCS} (in) "Active Low Chip Select. Logic 1 three-states the microport data bus./ Serial Chip Select.", D11 EXPC0 (out) "External VGA Gain Control Bits. GND all pins if not used.", E1 CHIPID1 (in) "Chip ID Input Pins.", E2 ~{IRP} (out) "Interrupt Pin (Active Low). Terminate to VDDIO through external 1 k ohm pull-up resistor.", F1 SMODE (in) "Serial Mode Select.", F2 D13 (io) "Bidirectional Microport Data. This bus is three-stated when C\S\ is high.", F3 D15 (io) "Bidirectional Microport Data. This bus is three-stated when C\S\ is high.", F4 ~{RESET} (in) "Master Reset, Active Low.", F5 D1 (io) "Bidirectional Microport Data. This bus is three-stated when C\S\ is high.", F16 C2 "Compensation Pin for ADC Voltage Reference. Bypass to AGND with 0.1 µF chip capacitor.", G2 D8 (io) "Bidirectional Microport Data. This bus is three-stated when C\S\ is high.", G3 D9 (io) "Bidirectional Microport Data. This bus is three-stated when C\S\ is high.", G4 D2 (io) "Bidirectional Microport Data. This bus is three-stated when C\S\ is high.", G5 D5 (io) "Bidirectional Microport Data. This bus is three-stated when C\S\ is high.", H1 D3 (io) "Bidirectional Microport Data. This bus is three-stated when C\S\ is high.", H2 D11 (io) "Bidirectional Microport Data. This bus is three-stated when C\S\ is high.", H3 D4 (io) "Bidirectional Microport Data. This bus is three-stated when C\S\ is high.", H4 D10 (io) "Bidirectional Microport Data. This bus is three-stated when C\S\ is high.", H5 A6 (in) "Microport Address Bus.", H16 C1 "Compensation Pin for ADC Voltage Reference. Bypass to AGND with 0.1 µF chip capacitor.", J2 D6 (io) "Bidirectional Microport Data. This bus is three-stated when C\S\ is high.", J3 D0 (io) "Bidirectional Microport Data. This bus is three-stated when C\S\ is high.", J4 A7 (in) "Microport Address Bus.", J5 A1 (in) "Microport Address Bus.", K1 A5 (in) "Microport Address Bus.", K2 A4 (in) "Microport Address Bus.", K3 A0/SDI (in) "Serial Port Data Input.", K4 A2 (in) "Microport Address Bus.", L1 A3 (in) "Microport Address Bus.", P1 PCIQ (out) "Parallel Port C I/Q Data Indicator. Logic 1 indicates I data on data bus.", P11 SYNC2 (in) "Synchronization Input 2.", R11 SYNC1 (in) "Synchronization Input 1.", T4 PCLK (out) "Parallel Output Port Clock. PCLK is bi-directional: master mode = output, slave mode = input.", T7 PBIQ (out) "Parallel Port B I/Q Data Indicator. Logic 1 indicates I data on data bus.", T9 DNC "Do Not Connect.", T10 SYNC0 (in) "Synchronization Input 0. SYNC pins are independent of channels.", T11 SYNC3 (in) "Synchronization Input 3.", T12 DR (out) "Data Ready. Inverted and delayed representation of ENC+ used for driving the DDC CLK input.", T14 VREF (out) "2.4 V Fixed Internal Voltage Reference. Bypass to AGND with 0.1 uF chip capacitor."
part C pins: A1 DGND (power) "Digital Core and I/O Ground.", A13 AVDD (power) "5 V Analog ADC Core Supply.", A14 AVDD (power) "5 V Analog ADC Core Supply.", A15 AGND (power) "Analog ADC Ground.", A16 AGND (power) "Analog ADC Ground.", B13 AVDD (power) "5 V Analog ADC Core Supply.", B14 AVDD (power) "5 V Analog ADC Core Supply.", B15 AGND (power) "Analog ADC Ground.", B16 AGND (power) "Analog ADC Ground.", C12 AVDD (power) "5 V Analog ADC Core Supply.", C13 AVDD (power) "5 V Analog ADC Core Supply.", C14 AVDD (power) "5 V Analog ADC Core Supply.", C15 AGND (power) "Analog ADC Ground.", C16 AGND (power) "Analog ADC Ground.", D12 DRVDD (power) "3.3 V ADC Output Driver Supply", D13 AVDD (power) "5 V Analog ADC Core Supply.", D14 AVDD (power) "5 V Analog ADC Core Supply.", D15 AGND (power) "Analog ADC Ground.", D16 AGND (power) "Analog ADC Ground.", E3 VDDIO (power) "3.3 V Digital DDC I/O Supply.", E4 VDDCORE (power) "1.8 V Digital DDC Core Supply", E6 VDDCORE (power) "1.8 V Digital DDC Core Supply", E7 VDDCORE (power) "1.8 V Digital DDC Core Supply", E8 VDDCORE (power) "1.8 V Digital DDC Core Supply", E9 VDDIO (power) "3.3 V Digital DDC I/O Supply.", E10 VDDIO (power) "3.3 V Digital DDC I/O Supply.", E11 VDDIO (power) "3.3 V Digital DDC I/O Supply.", E12 DRVDD (power) "3.3 V ADC Output Driver Supply", E13 AVDD (power) "5 V Analog ADC Core Supply.", E14 AVDD (power) "5 V Analog ADC Core Supply.", E15 AGND (power) "Analog ADC Ground.", E16 AGND (power) "Analog ADC Ground.", F6 VDDCORE (power) "1.8 V Digital DDC Core Supply", F7 VDDCORE (power) "1.8 V Digital DDC Core Supply", F8 VDDCORE (power) "1.8 V Digital DDC Core Supply", F9 VDDIO (power) "3.3 V Digital DDC I/O Supply.", F10 VDDIO (power) "3.3 V Digital DDC I/O Supply.", F11 VDDIO (power) "3.3 V Digital DDC I/O Supply.", F12 DRVDD (power) "3.3 V ADC Output Driver Supply", F13 AVDD (power) "5 V Analog ADC Core Supply.", F14 AVDD (power) "5 V Analog ADC Core Supply.", F15 AGND (power) "Analog ADC Ground.", G1 DGND (power) "Digital Core and I/O Ground.", G6 DGND (power) "Digital Core and I/O Ground.", G7 DGND (power) "Digital Core and I/O Ground.", G8 DGND (power) "Digital Core and I/O Ground.", G9 DGND (power) "Digital Core and I/O Ground.", G10 DGND (power) "Digital Core and I/O Ground.", G11 DGND (power) "Digital Core and I/O Ground.", G12 DRVDD (power) "3.3 V ADC Output Driver Supply", G13 AVDD (power) "5 V Analog ADC Core Supply.", G14 AVDD (power) "5 V Analog ADC Core Supply.", G15 AGND (power) "Analog ADC Ground.", G16 AGND (power) "Analog ADC Ground.", H6 DGND (power) "Digital Core and I/O Ground.", H7 DGND (power) "Digital Core and I/O Ground.", H8 DGND (power) "Digital Core and I/O Ground.", H9 DGND (power) "Digital Core and I/O Ground.", H10 DGND (power) "Digital Core and I/O Ground.", H11 DGND (power) "Digital Core and I/O Ground.", H12 DRVDD (power) "3.3 V ADC Output Driver Supply", H13 AVDD (power) "5 V Analog ADC Core Supply.", H14 AVDD (power) "5 V Analog ADC Core Supply.", H15 AGND (power) "Analog ADC Ground.", J1 DGND (power) "Digital Core and I/O Ground.", J6 DGND (power) "Digital Core and I/O Ground.", J7 DGND (power) "Digital Core and I/O Ground.", J8 DGND (power) "Digital Core and I/O Ground.", J9 DGND (power) "Digital Core and I/O Ground.", J10 DGND (power) "Digital Core and I/O Ground.", J11 DGND (power) "Digital Core and I/O Ground.", J12 DRVDD (power) "3.3 V ADC Output Driver Supply", J13 AVDD (power) "5 V Analog ADC Core Supply.", J14 AVDD (power) "5 V Analog ADC Core Supply.", J15 AGND (power) "Analog ADC Ground.", J16 AGND (power) "Analog ADC Ground.", K6 DGND (power) "Digital Core and I/O Ground.", K7 DGND (power) "Digital Core and I/O Ground.", K8 DGND (power) "Digital Core and I/O Ground.", K9 DGND (power) "Digital Core and I/O Ground.", K10 DGND (power) "Digital Core and I/O Ground.", K11 DGND (power) "Digital Core and I/O Ground.", K12 DRVDD (power) "3.3 V ADC Output Driver Supply", K13 AVDD (power) "5 V Analog ADC Core Supply.", K14 AVDD (power) "5 V Analog ADC Core Supply.", K15 AGND (power) "Analog ADC Ground.", K16 AGND (power) "Analog ADC Ground.", L6 VDDIO (power) "3.3 V Digital DDC I/O Supply.", L7 VDDIO (power) "3.3 V Digital DDC I/O Supply.", L8 VDDIO (power) "3.3 V Digital DDC I/O Supply.", L9 VDDCORE (power) "1.8 V Digital DDC Core Supply", L10 VDDCORE (power) "1.8 V Digital DDC Core Supply", L11 VDDCORE (power) "1.8 V Digital DDC Core Supply", L12 DRVDD (power) "3.3 V ADC Output Driver Supply", L13 AVDD (power) "5 V Analog ADC Core Supply.", L14 AVDD (power) "5 V Analog ADC Core Supply.", L15 AGND (power) "Analog ADC Ground.", M6 VDDIO (power) "3.3 V Digital DDC I/O Supply.", M7 VDDIO (power) "3.3 V Digital DDC I/O Supply.", M8 VDDIO (power) "3.3 V Digital DDC I/O Supply.", M9 VDDCORE (power) "1.8 V Digital DDC Core Supply", M10 VDDCORE (power) "1.8 V Digital DDC Core Supply", M11 VDDCORE (power) "1.8 V Digital DDC Core Supply", M12 DRVDD (power) "3.3 V ADC Output Driver Supply", M13 AVDD (power) "5 V Analog ADC Core Supply.", M14 AVDD (power) "5 V Analog ADC Core Supply.", M15 AGND (power) "Analog ADC Ground.", N9 DGND (power) "Digital Core and I/O Ground.", N10 DGND (power) "Digital Core and I/O Ground.", N11 DGND (power) "Digital Core and I/O Ground.", N12 DRVDD (power) "3.3 V ADC Output Driver Supply", N13 AVDD (power) "5 V Analog ADC Core Supply.", N14 AVDD (power) "5 V Analog ADC Core Supply.", N15 AGND (power) "Analog ADC Ground.", N16 AGND (power) "Analog ADC Ground.", P12 DRVDD (power) "3.3 V ADC Output Driver Supply", P13 AVDD (power) "5 V Analog ADC Core Supply.", P14 AVDD (power) "5 V Analog ADC Core Supply.", P15 AGND (power) "Analog ADC Ground.", P16 AGND (power) "Analog ADC Ground.", R12 DRVDD (power) "3.3 V ADC Output Driver Supply", R13 AGND (power) "Analog ADC Ground.", R14 AGND (power) "Analog ADC Ground.", R15 AGND (power) "Analog ADC Ground.", T1 DGND (power) "Digital Core and I/O Ground.", T8 DGND (power) "Digital Core and I/O Ground.", T13 AGND (power) "Analog ADC Ground.", T15 AGND (power) "Analog ADC Ground."